# Altium schematic symbol library CorgiSDR.SchLib: 16 symbols
Pins are listed as number, name and electrical type; pins without a type are passive.

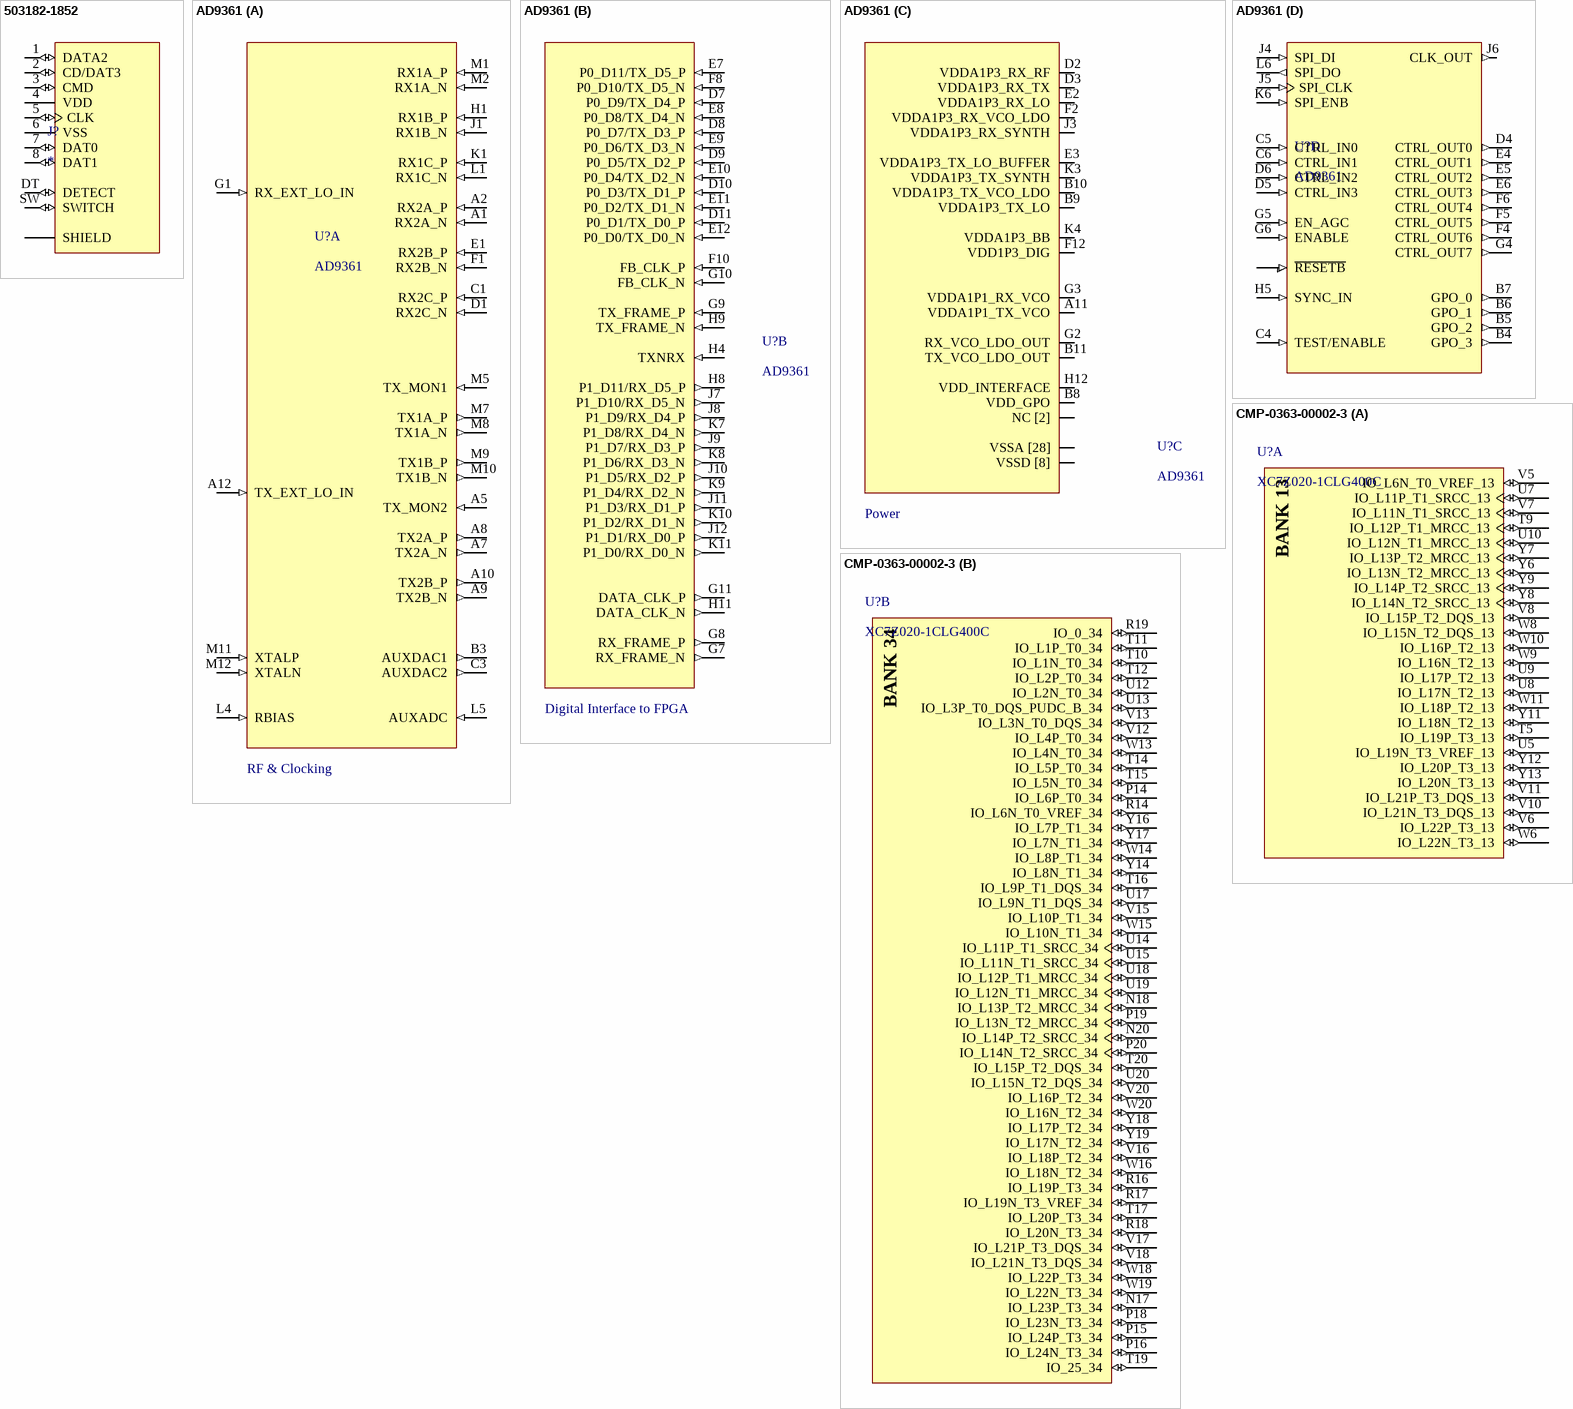
[diagram p0: symbols 503182-1852 to CMP-0363-00002-3]

## 503182-1852
designator J?
Connector - Micro SD Card M 8 POS 1.09mm Solder RA SMD Embossed T/R 0.5A/Contact; MF: {'manufacturer': u'Molex'}; MP: 503182-1852; Availability: Unavailable; Price: None; Value: *; Package: None
footprint MOLEX_503182-1852
pins: 1 DATA2 (io), 2 CD/DAT3 (io), 3 CMD (io), 4 VDD (power), 5 CLK (io), 6 VSS (power), 7 DAT0 (io), 8 DAT1 (io), DT DETECT (io), P1 SHIELD, P2 SHIELD, P3 SHIELD, P4 SHIELD, P5 SHIELD, SW SWITCH (io)

## AD9361
designator U?
Analog Front End - RF Agile Transceiver 2Tx x 2Rx
footprint BGA144C80P12X12_1000X1000X170 (BGA, 144-Leads, Body 10.00x10.00mmx1.70mm, Pitch 0.80mm)
part A pins: A1 RX2A_N (in), A2 RX2A_P (in), A5 TX_MON2 (in), A7 TX2A_N (out), A8 TX2A_P (out), A9 TX2B_N (out), A10 TX2B_P (out), A12 TX_EXT_LO_IN (in), B3 AUXDAC1 (out), C1 RX2C_P (in), C3 AUXDAC2 (out), D1 RX2C_N (in), E1 RX2B_P (in), F1 RX2B_N (in), G1 RX_EXT_LO_IN (in), H1 RX1B_P (in), J1 RX1B_N (in), K1 RX1C_P (in), L1 RX1C_N (in), L4 RBIAS (in), L5 AUXADC (in), M1 RX1A_P (in), M2 RX1A_N (in), M5 TX_MON1 (in), M7 TX1A_P (out), M8 TX1A_N (out), M9 TX1B_P (out), M10 TX1B_N (out), M11 XTALP (in), M12 XTALN (in)
part B pins: D7 P0_D9/TX_D4_P (in), D8 P0_D7/TX_D3_P (in), D9 P0_D5/TX_D2_P (in), D10 P0_D3/TX_D1_P (in), D11 P0_D1/TX_D0_P (in), E7 P0_D11/TX_D5_P (in), E8 P0_D8/TX_D4_N (in), E9 P0_D6/TX_D3_N (in), E10 P0_D4/TX_D2_N (in), E11 P0_D2/TX_D1_N (in), E12 P0_D0/TX_D0_N (in), F8 P0_D10/TX_D5_N (in), F10 FB_CLK_P (in), G7 RX_FRAME_N (out), G8 RX_FRAME_P (out), G9 TX_FRAME_P (in), G10 FB_CLK_N (in), G11 DATA_CLK_P (out), H4 TXNRX (in), H8 P1_D11/RX_D5_P (out), H9 TX_FRAME_N (in), H11 DATA_CLK_N (out), J7 P1_D10/RX_D5_N (out), J8 P1_D9/RX_D4_P (out), J9 P1_D7/RX_D3_P (out), J10 P1_D5/RX_D2_P (out), J11 P1_D3/RX_D1_P (out), J12 P1_D1/RX_D0_P (out), K7 P1_D8/RX_D4_N (out), K8 P1_D6/RX_D3_N (out), K9 P1_D4/RX_D2_N (out), K10 P1_D2/RX_D1_N (out), K11 P1_D0/RX_D0_N (out)
part C pins: A3 NC [2] (power), A4 VSSA [28] (power), A6 (power), A11 VDDA1P1_TX_VCO (power), B1 M15 (power), B2 M16 (power), B8 VDD_GPO (power), B9 VDDA1P3_TX_LO (power), B10 VDDA1P3_TX_VCO_LDO (power), B11 TX_VCO_LDO_OUT (power), B12 M17 (power), C2 M18 (power), C7 M19 (power), C8 M20 (power), C9 M22 (power), C10 M21 (power), C11 M23 (power), C12 M24 (power), D2 VDDA1P3_RX_RF (power), D3 VDDA1P3_RX_TX (power), D12 VSSD [8] (power), E2 VDDA1P3_RX_LO (power), E3 VDDA1P3_TX_LO_BUFFER (power), F2 VDDA1P3_RX_VCO_LDO (power), F3 M26 (power), F7 M14 (power), F9 M15 (power), F11 M16 (power), F12 VDD1P3_DIG (power), G2 RX_VCO_LDO_OUT (power), G3 VDDA1P1_RX_VCO (power), G12 M17 (power), H2 M25 (power), H3 M13 (power), H6 M14 (power), H7 M18 (power), H10 M19 (power), H12 VDD_INTERFACE (power), J2 M15 (power), J3 VDDA1P3_RX_SYNTH (power), K2 M16 (power), K3 VDDA1P3_TX_SYNTH (power), K4 VDDA1P3_BB (power), K12 M20 (power), L2 M17 (power), L3 M18 (power), L7 M19 (power), L8 M20 (power), L9 M21 (power), L10 M22 (power), L11 M23 (power), L12 M24 (power), M3 M14 (power), M4 M25 (power), M6 M26 (power)
part D pins: B4 GPO_3 (out), B5 GPO_2 (out), B6 GPO_1 (out), B7 GPO_0 (out), C4 TEST/ENABLE (in), C5 CTRL_IN0 (in), C6 CTRL_IN1 (in), D4 CTRL_OUT0 (out), D5 CTRL_IN3 (in), D6 CTRL_IN2 (in), E4 CTRL_OUT1 (out), E5 CTRL_OUT2 (out), E6 CTRL_OUT3 (out), F4 CTRL_OUT6 (out), F5 CTRL_OUT5 (out), F6 CTRL_OUT4 (out), G4 CTRL_OUT7 (out), G5 EN_AGC (in), G6 ENABLE (in), H5 SYNC_IN (in), J4 SPI_DI (in), J5 SPI_CLK (in), J6 CLK_OUT (out), K6 SPI_ENB (in), L6 SPI_DO (out), ? ~{RESETB} (in)
part A text: RF & Clocking
part B text: Digital Interface to FPGA
part C text: Power

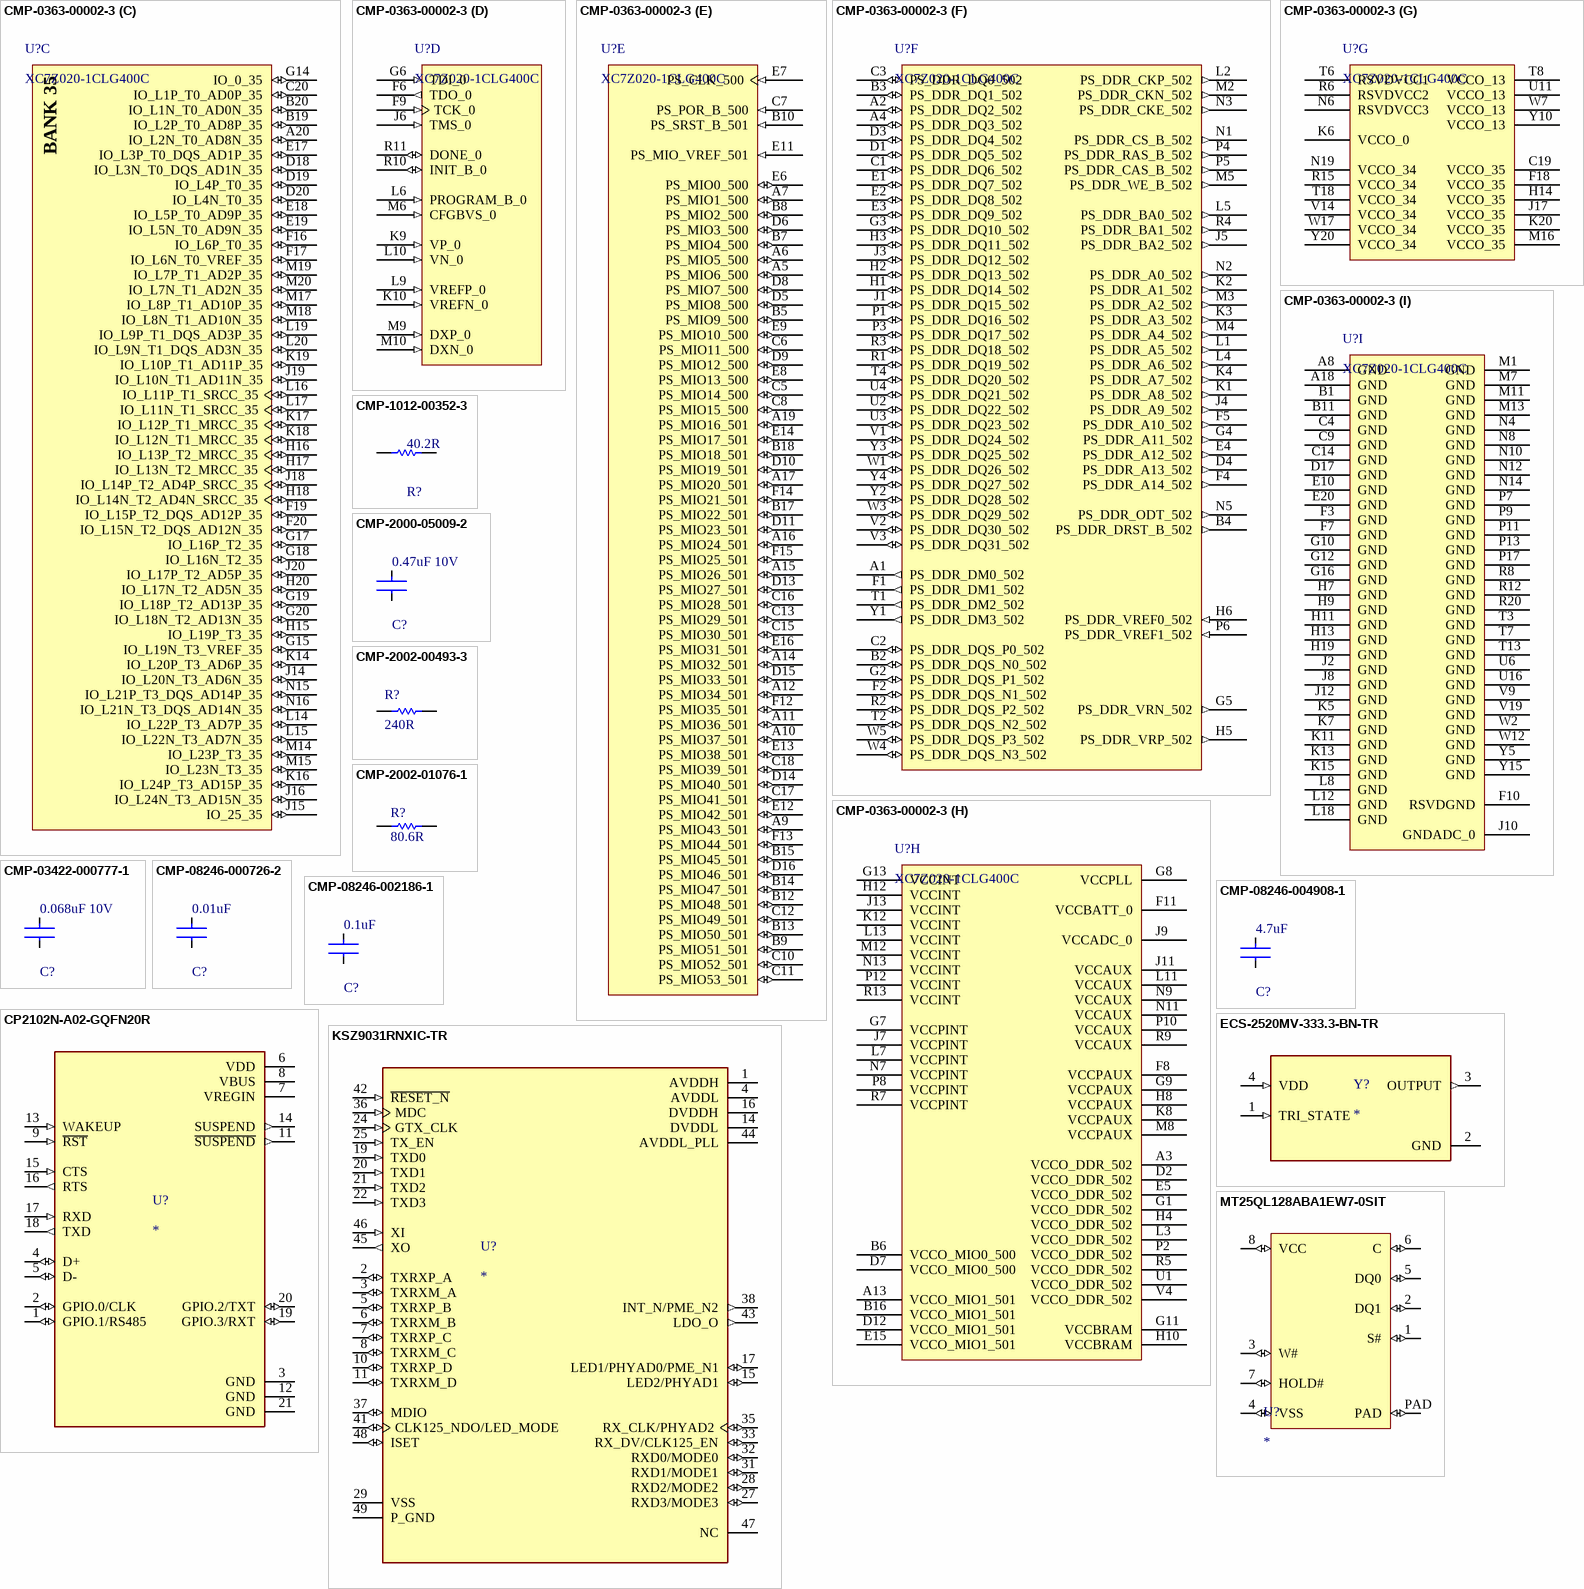
[diagram p1: symbols CMP-0363-00002-3 to MT25QL128ABA1EW7-0SIT]

## CMP-0363-00002-3
designator U?, comment XC7Z020-1CLG400C
SoC - 667 MHz Zynq™-7000 AP SoC, 130 PS I/O, 125 FPGA I/O, 400-Ball BGA, Speed Grade 1, Commercial Grade, Pb-Free; Flip Flops: 106400; Speed Grade: -1; LUTs: 53200; Extensible Block RAM (# 36Kb Blocks): 560 KB (140); PackageVersion: Rev 1.1, 09/2012; ComponentLink1Description: Datasheet; ComponentLink2Description: Package Specification; ComponentLink6Description: PCB and Layout Guide; PackageDescription: Wire-Bond Chip-Scale BGA, Body 17 x 17 mm, 0.8 mm Pitch; RoHS: Pb-Free; DatasheetVersion: v1.2; Mounting Technology: Surface Mount; ComponentLink5Description: Packaging and Pinout; ComponentLink5URL: http://www.xilinx.com/support/documentation/user_guides/ug865-Zynq-7000-Pkg-Pinout.pdf; ComponentLink6URL: http://www.xilinx.com/support/documentation/user_guides/ug483_7Series_PCB.pdf; Generic Part Number: XC7Z020; ComponentLink3Description: DC and AC Switching Characteristics; ComponentLink2URL: http://www.xilinx.com/support/documentation/user_guides/ug865-Zynq-7000-Pkg-Pinout.pdf; ComponentLink4Description: Package File; ComponentLink1URL: http://www.xilinx.com/support/documentation/data_sheets/ds190-Zynq-7000-Overview.pdf; PackageReference: CLG400; ComponentLink3URL: http://www.xilinx.com/support/documentation/data_sheets/ds187-XC7Z010-XC7Z020-Data-Sheet.pdf; PartNumber: XC7Z020-1CLG400C; ComponentLink4URL: http://www.xilinx.com/support/packagefiles/z7packages/xc7z020clg400pkg.txt; Code_JEDEC: MO-275-MMAA-1
footprint CLG400 (BGA, 400-Balls, Body 17x17mm, Pitch 0.8mm)
part A pins: T5 IO_L19P_T3_13 (io), T9 IO_L12P_T1_MRCC_13 (io), U5 IO_L19N_T3_VREF_13 (io), U7 IO_L11P_T1_SRCC_13 (io), U8 IO_L17N_T2_13 (io), U9 IO_L17P_T2_13 (io), U10 IO_L12N_T1_MRCC_13 (io), V5 IO_L6N_T0_VREF_13 (io), V6 IO_L22P_T3_13 (io), V7 IO_L11N_T1_SRCC_13 (io), V8 IO_L15P_T2_DQS_13 (io), V10 IO_L21N_T3_DQS_13 (io), V11 IO_L21P_T3_DQS_13 (io), W6 IO_L22N_T3_13 (io), W8 IO_L15N_T2_DQS_13 (io), W9 IO_L16N_T2_13 (io), W10 IO_L16P_T2_13 (io), W11 IO_L18P_T2_13 (io), Y6 IO_L13N_T2_MRCC_13 (io), Y7 IO_L13P_T2_MRCC_13 (io), Y8 IO_L14N_T2_SRCC_13 (io), Y9 IO_L14P_T2_SRCC_13 (io), Y11 IO_L18N_T2_13 (io), Y12 IO_L20P_T3_13 (io), Y13 IO_L20N_T3_13 (io)
part B pins: N17 IO_L23P_T3_34 (io), N18 IO_L13P_T2_MRCC_34 (io), N20 IO_L14P_T2_SRCC_34 (io), P14 IO_L6P_T0_34 (io), P15 IO_L24P_T3_34 (io), P16 IO_L24N_T3_34 (io), P18 IO_L23N_T3_34 (io), P19 IO_L13N_T2_MRCC_34 (io), P20 IO_L14N_T2_SRCC_34 (io), R14 IO_L6N_T0_VREF_34 (io), R16 IO_L19P_T3_34 (io), R17 IO_L19N_T3_VREF_34 (io), R18 IO_L20N_T3_34 (io), R19 IO_0_34 (io), T10 IO_L1N_T0_34 (io), T11 IO_L1P_T0_34 (io), T12 IO_L2P_T0_34 (io), T14 IO_L5P_T0_34 (io), T15 IO_L5N_T0_34 (io), T16 IO_L9P_T1_DQS_34 (io), T17 IO_L20P_T3_34 (io), T19 IO_25_34 (io), T20 IO_L15P_T2_DQS_34 (io), U12 IO_L2N_T0_34 (io), U13 IO_L3P_T0_DQS_PUDC_B_34 (io), U14 IO_L11P_T1_SRCC_34 (io), U15 IO_L11N_T1_SRCC_34 (io), U17 IO_L9N_T1_DQS_34 (io), U18 IO_L12P_T1_MRCC_34 (io), U19 IO_L12N_T1_MRCC_34 (io), U20 IO_L15N_T2_DQS_34 (io), V12 IO_L4P_T0_34 (io), V13 IO_L3N_T0_DQS_34 (io), V15 IO_L10P_T1_34 (io), V16 IO_L18P_T2_34 (io), V17 IO_L21P_T3_DQS_34 (io), V18 IO_L21N_T3_DQS_34 (io), V20 IO_L16P_T2_34 (io), W13 IO_L4N_T0_34 (io), W14 IO_L8P_T1_34 (io), W15 IO_L10N_T1_34 (io), W16 IO_L18N_T2_34 (io), W18 IO_L22P_T3_34 (io), W19 IO_L22N_T3_34 (io), W20 IO_L16N_T2_34 (io), Y14 IO_L8N_T1_34 (io), Y16 IO_L7P_T1_34 (io), Y17 IO_L7N_T1_34 (io), Y18 IO_L17P_T2_34 (io), Y19 IO_L17N_T2_34 (io)
part C pins: A20 IO_L2N_T0_AD8N_35 (io), B19 IO_L2P_T0_AD8P_35 (io), B20 IO_L1N_T0_AD0N_35 (io), C20 IO_L1P_T0_AD0P_35 (io), D18 IO_L3N_T0_DQS_AD1N_35 (io), D19 IO_L4P_T0_35 (io), D20 IO_L4N_T0_35 (io), E17 IO_L3P_T0_DQS_AD1P_35 (io), E18 IO_L5P_T0_AD9P_35 (io), E19 IO_L5N_T0_AD9N_35 (io), F16 IO_L6P_T0_35 (io), F17 IO_L6N_T0_VREF_35 (io), F19 IO_L15P_T2_DQS_AD12P_35 (io), F20 IO_L15N_T2_DQS_AD12N_35 (io), G14 IO_0_35 (io), G15 IO_L19N_T3_VREF_35 (io), G17 IO_L16P_T2_35 (io), G18 IO_L16N_T2_35 (io), G19 IO_L18P_T2_AD13P_35 (io), G20 IO_L18N_T2_AD13N_35 (io), H15 IO_L19P_T3_35 (io), H16 IO_L13P_T2_MRCC_35 (io), H17 IO_L13N_T2_MRCC_35 (io), H18 IO_L14N_T2_AD4N_SRCC_35 (io), H20 IO_L17N_T2_AD5N_35 (io), J14 IO_L20N_T3_AD6N_35 (io), J15 IO_25_35 (io), J16 IO_L24N_T3_AD15N_35 (io), J18 IO_L14P_T2_AD4P_SRCC_35 (io), J19 IO_L10N_T1_AD11N_35 (io), J20 IO_L17P_T2_AD5P_35 (io), K14 IO_L20P_T3_AD6P_35 (io), K16 IO_L24P_T3_AD15P_35 (io), K17 IO_L12P_T1_MRCC_35 (io), K18 IO_L12N_T1_MRCC_35 (io), K19 IO_L10P_T1_AD11P_35 (io), L14 IO_L22P_T3_AD7P_35 (io), L15 IO_L22N_T3_AD7N_35 (io), L16 IO_L11P_T1_SRCC_35 (io), L17 IO_L11N_T1_SRCC_35 (io), L19 IO_L9P_T1_DQS_AD3P_35 (io), L20 IO_L9N_T1_DQS_AD3N_35 (io), M14 IO_L23P_T3_35 (io), M15 IO_L23N_T3_35 (io), M17 IO_L8P_T1_AD10P_35 (io), M18 IO_L8N_T1_AD10N_35 (io), M19 IO_L7P_T1_AD2P_35 (io), M20 IO_L7N_T1_AD2N_35 (io), N15 IO_L21P_T3_DQS_AD14P_35 (io), N16 IO_L21N_T3_DQS_AD14N_35 (io)
part D pins: F6 TDO_0 (out), F9 TCK_0 (in), G6 TDI_0 (in), J6 TMS_0 (in), K9 VP_0 (in), K10 VREFN_0 (in), L6 PROGRAM_B_0 (in), L9 VREFP_0 (in), L10 VN_0 (in), M6 CFGBVS_0 (in), M9 DXP_0 (in), M10 DXN_0 (in), R10 INIT_B_0 (io), R11 DONE_0 (io)
part E pins: A5 PS_MIO6_500 (io), A6 PS_MIO5_500 (io), A7 PS_MIO1_500 (io), A9 PS_MIO43_501 (io), A10 PS_MIO37_501 (io), A11 PS_MIO36_501 (io), A12 PS_MIO34_501 (io), A14 PS_MIO32_501 (io), A15 PS_MIO26_501 (io), A16 PS_MIO24_501 (io), A17 PS_MIO20_501 (io), A19 PS_MIO16_501 (io), B5 PS_MIO9_500 (io), B7 PS_MIO4_500 (io), B8 PS_MIO2_500 (io), B9 PS_MIO51_501 (io), B10 PS_SRST_B_501 (in), B12 PS_MIO48_501 (io), B13 PS_MIO50_501 (io), B14 PS_MIO47_501 (io), B15 PS_MIO45_501 (io), B17 PS_MIO22_501 (io), B18 PS_MIO18_501 (io), C5 PS_MIO14_500 (io), C6 PS_MIO11_500 (io), C7 PS_POR_B_500 (in), C8 PS_MIO15_500 (io), C10 PS_MIO52_501 (io), C11 PS_MIO53_501 (io), C12 PS_MIO49_501 (io), C13 PS_MIO29_501 (io), C15 PS_MIO30_501 (io), C16 PS_MIO28_501 (io), C17 PS_MIO41_501 (io), C18 PS_MIO39_501 (io), D5 PS_MIO8_500 (io), D6 PS_MIO3_500 (io), D8 PS_MIO7_500 (io), D9 PS_MIO12_500 (io), D10 PS_MIO19_501 (io), D11 PS_MIO23_501 (io), D13 PS_MIO27_501 (io), D14 PS_MIO40_501 (io), D15 PS_MIO33_501 (io), D16 PS_MIO46_501 (io), E6 PS_MIO0_500 (io), E7 PS_CLK_500 (in), E8 PS_MIO13_500 (io), E9 PS_MIO10_500 (io), E11 PS_MIO_VREF_501 (in), E12 PS_MIO42_501 (io), E13 PS_MIO38_501 (io), E14 PS_MIO17_501 (io), E16 PS_MIO31_501 (io), F12 PS_MIO35_501 (io), F13 PS_MIO44_501 (io), F14 PS_MIO21_501 (io), F15 PS_MIO25_501 (io)
part F pins: A1 PS_DDR_DM0_502 (out), A2 PS_DDR_DQ2_502 (io), A4 PS_DDR_DQ3_502 (io), B2 PS_DDR_DQS_N0_502 (io), B3 PS_DDR_DQ1_502 (io), B4 PS_DDR_DRST_B_502 (out), C1 PS_DDR_DQ6_502 (io), C2 PS_DDR_DQS_P0_502 (io), C3 PS_DDR_DQ0_502 (io), D1 PS_DDR_DQ5_502 (io), D3 PS_DDR_DQ4_502 (io), D4 PS_DDR_A13_502 (out), E1 PS_DDR_DQ7_502 (io), E2 PS_DDR_DQ8_502 (io), E3 PS_DDR_DQ9_502 (io), E4 PS_DDR_A12_502 (out), F1 PS_DDR_DM1_502 (out), F2 PS_DDR_DQS_N1_502 (io), F4 PS_DDR_A14_502 (out), F5 PS_DDR_A10_502 (out), G2 PS_DDR_DQS_P1_502 (io), G3 PS_DDR_DQ10_502 (io), G4 PS_DDR_A11_502 (out), G5 PS_DDR_VRN_502 (out), H1 PS_DDR_DQ14_502 (io), H2 PS_DDR_DQ13_502 (io), H3 PS_DDR_DQ11_502 (io), H5 PS_DDR_VRP_502 (out), H6 PS_DDR_VREF0_502 (in), J1 PS_DDR_DQ15_502 (io), J3 PS_DDR_DQ12_502 (io), J4 PS_DDR_A9_502 (out), J5 PS_DDR_BA2_502 (out), K1 PS_DDR_A8_502 (out), K2 PS_DDR_A1_502 (out), K3 PS_DDR_A3_502 (out), K4 PS_DDR_A7_502 (out), L1 PS_DDR_A5_502 (out), L2 PS_DDR_CKP_502 (out), L4 PS_DDR_A6_502 (out), L5 PS_DDR_BA0_502 (out), M2 PS_DDR_CKN_502 (out), M3 PS_DDR_A2_502 (out), M4 PS_DDR_A4_502 (out), M5 PS_DDR_WE_B_502 (out), N1 PS_DDR_CS_B_502 (out), N2 PS_DDR_A0_502 (out), N3 PS_DDR_CKE_502 (out), N5 PS_DDR_ODT_502 (out), P1 PS_DDR_DQ16_502 (io), P3 PS_DDR_DQ17_502 (io), P4 PS_DDR_RAS_B_502 (out), P5 PS_DDR_CAS_B_502 (out), P6 PS_DDR_VREF1_502 (in), R1 PS_DDR_DQ19_502 (io), R2 PS_DDR_DQS_P2_502 (io), R3 PS_DDR_DQ18_502 (io), R4 PS_DDR_BA1_502 (out), T1 PS_DDR_DM2_502 (out), T2 PS_DDR_DQS_N2_502 (io), T4 PS_DDR_DQ20_502 (io), U2 PS_DDR_DQ22_502 (io), U3 PS_DDR_DQ23_502 (io), U4 PS_DDR_DQ21_502 (io), V1 PS_DDR_DQ24_502 (io), V2 PS_DDR_DQ30_502 (io), V3 PS_DDR_DQ31_502 (io), W1 PS_DDR_DQ26_502 (io), W3 PS_DDR_DQ29_502 (io), W4 PS_DDR_DQS_N3_502 (io), W5 PS_DDR_DQS_P3_502 (io), Y1 PS_DDR_DM3_502 (out), Y2 PS_DDR_DQ28_502 (io), Y3 PS_DDR_DQ25_502 (io), Y4 PS_DDR_DQ27_502 (io)
part G pins: C19 VCCO_35 (power), F18 VCCO_35 (power), H14 VCCO_35 (power), J17 VCCO_35 (power), K6 VCCO_0 (power), K20 VCCO_35 (power), M16 VCCO_35 (power), N6 RSVDVCC3 (power), N19 VCCO_34 (power), R6 RSVDVCC2 (power), R15 VCCO_34 (power), T6 RSVDVCC1 (power), T8 VCCO_13 (power), T18 VCCO_34 (power), U11 VCCO_13 (power), V14 VCCO_34 (power), W7 VCCO_13 (power), W17 VCCO_34 (power), Y10 VCCO_13 (power), Y20 VCCO_34 (power)
part H pins: A3 VCCO_DDR_502 (power), A13 VCCO_MIO1_501 (power), B6 VCCO_MIO0_500 (power), B16 VCCO_MIO1_501 (power), D2 VCCO_DDR_502 (power), D7 VCCO_MIO0_500 (power), D12 VCCO_MIO1_501 (power), E5 VCCO_DDR_502 (power), E15 VCCO_MIO1_501 (power), F8 VCCPAUX (power), F11 VCCBATT_0 (power), G1 VCCO_DDR_502 (power), G7 VCCPINT (power), G8 VCCPLL (power), G9 VCCPAUX (power), G11 VCCBRAM (power), G13 VCCINT (power), H4 VCCO_DDR_502 (power), H8 VCCPAUX (power), H10 VCCBRAM (power), H12 VCCINT (power), J7 VCCPINT (power), J9 VCCADC_0 (power), J11 VCCAUX (power), J13 VCCINT (power), K8 VCCPAUX (power), K12 VCCINT (power), L3 VCCO_DDR_502 (power), L7 VCCPINT (power), L11 VCCAUX (power), L13 VCCINT (power), M8 VCCPAUX (power), M12 VCCINT (power), N7 VCCPINT (power), N9 VCCAUX (power), N11 VCCAUX (power), N13 VCCINT (power), P2 VCCO_DDR_502 (power), P8 VCCPINT (power), P10 VCCAUX (power), P12 VCCINT (power), R5 VCCO_DDR_502 (power), R7 VCCPINT (power), R9 VCCAUX (power), R13 VCCINT (power), U1 VCCO_DDR_502 (power), V4 VCCO_DDR_502 (power)
part I pins: A8 GND (power), A18 GND (power), B1 GND (power), B11 GND (power), C4 GND (power), C9 GND (power), C14 GND (power), D17 GND (power), E10 GND (power), E20 GND (power), F3 GND (power), F7 GND (power), F10 RSVDGND (power), G10 GND (power), G12 GND (power), G16 GND (power), H7 GND (power), H9 GND (power), H11 GND (power), H13 GND (power), H19 GND (power), J2 GND (power), J8 GND (power), J10 GNDADC_0 (power), J12 GND (power), K5 GND (power), K7 GND (power), K11 GND (power), K13 GND (power), K15 GND (power), L8 GND (power), L12 GND (power), L18 GND (power), M1 GND (power), M7 GND (power), M11 GND (power), M13 GND (power), N4 GND (power), N8 GND (power), N10 GND (power), N12 GND (power), N14 GND (power), P7 GND (power), P9 GND (power), P11 GND (power), P13 GND (power), P17 GND (power), R8 GND (power), R12 GND (power), R20 GND (power), T3 GND (power), T7 GND (power), T13 GND (power), U6 GND (power), U16 GND (power), V9 GND (power), V19 GND (power), W2 GND (power), W12 GND (power), Y5 GND (power), Y15 GND (power)
part A text: BANK 13
part B text: BANK 34
part C text: BANK 35

## CMP-1012-00352-3
designator R?, comment 40.2R
Resistor - 40.2Ω, 1%, 0.1W, 100ppm/°C, 0603; Max Power Dissipation: 100mW; Voltage Rating (DC): 75V; Packaging: Tape and Reel; Mount: Surface Mount; Composition: Thick Film; Case Code (Metric): 1608; Case/Package: 0603; Radiation Hardening: No; Min Operating Temperature: -55°C; Resistance: 40.2R; Power Rating: 100mW; Width: 0.033inch; Temperature Coefficient: 100ppm/°C; Tolerance: 1%; Termination: SMD/SMT; Case Code (Imperial): 0603; Features: Automotive AEC-Q200; Lead Free: Lead Free; Number of Terminations: 2; Max Operating Temperature: 155°C; Height: 0.45mm; Depth: 0.85mm; Military Standard: Not; Number of Pins: 2; Package Quantity: 10; Contact Plating: Tin; Weight: 7.1E-05oz; Voltage Rating: 75V; Length: 1.55mm
footprint FP-CRCW0603-e3-IPC_B
pins: 1, 2

## CMP-2000-05009-2
designator C?, comment 0.47uF 10V
Ceramic Capacitor - 0.47UF 10V X5R 0402; Manufacturer: Murata Electronics North America; Manufacturer Part Number: GRM155R61A474KE15D; Temperature Coefficient: 15%; Tolerance: 10%; Device Class L3: Ceramic Capacitors; ComponentLink2Description: Datasheet; ComponentLink2URL: https://search.murata.co.jp/Ceramy/image/img/A01X/G101/ENG/GRM155R61A474KE15-01A.pdf; Package: GRM15-0.1; Voltage Rating: 10V; Capacitance: 0.47uF; Category: Cap; Temperature Range High: +85°C; Temperature Range Low: -55°C; Height: 0.55mm; Device Class L2: Capacitors; Lead Free: Yes; Mouser Description: Multilayer Ceramic Capacitors MLCC - SMD/SMT 0402 0.47uF 10volts X5R 10%; Ipc Land Pattern Name: CAPC10050X50; Temperature Characteristic: X5R; Digikey Description: CAP CER 0.47UF 10V X5R 0402; Value: 0.47uF; Octopart: https://octopart.com/grm155r61a474ke15d-murata-196883; Automotive: No; Material: Ceramic; Device Class L1: Passive Components; Temperature: -55°C to +85°C; RoHS: TRUE
footprint FP-C1005-050-0_05-IPC_B
pins: 1, 2

## CMP-2002-00493-3
designator R?, comment 240R
Resistor - 240 Ohm, +/- 5%, 100 mW, 0402; PartNumber: ERJ-2GEJ241x; Manufacturer: Basic Passives; Resistance: 240 Ohm; Voltage Rating: 50 V; Case\/Package: 0402; Power Rating: 100 mW; PackageReference: 0402; ComponentLink1URL: http://www.panasonic.com/; ComponentLink2Description: Datasheet; PackageDescription: 2-Pin Surface Mount Device, Body 1 x 0.5 mm; Tolerance: 5%; Radiation Hardening: No; Packaging: Tape and Reel; Case Code (Metric): 1005; Case Code (Imperial): 0402; Mount: Surface Mount; REACH SVHC: Yes; Length: 1 mm; Mounting Technology: Surface Mount; Max Operating Temperature: 155 degC; Height: 0.35 mm; Width: 0.5 mm; Package Quantity: 10000; RoHSCompliant: true; DatasheetVersion: 03/2015; Pins: 2; ComponentLink1Description: Manufacturer URL; Min Operating Temperature: -55 degC; ComponentLink2URL: http://industrial.panasonic.com/cdbs/www-data/pdf/RDA0000/AOA0000C84.pdf
footprint RESC1005X40X25NL05T05 (Chip Resistor, 2-Leads, Body 1.00x0.50mm, IPC Medium Density)
pins: 1, 2

## CMP-2002-01076-1
designator R?, comment 80.6R
Resistor - 80.6R 1% 0.1W 0402; Manufacturer: Panasonic; Part Number: ERJ-2RKF80R6X; Resistance: 80.6; Category: Resistor; Tolerance: 1%; Power Rating: 0.1W; Case Code (Imperial): 0402
footprint RESC1005X40X25NL05T05 (Chip Resistor, 2-Leads, Body 1.05x0.55mm, IPC Medium Density)
pins: 1, 2
1 alternate drawing of the same symbol

## CMP-03422-000777-1
designator C?, comment 0.068uF 10V
Ceramic Capacitor - 0.068UF 10V X7R 0402; Manufacturer Part Number: CC0402KRX7R6BB683; Manufacturer: YAGEO; Value: 68 nF; Tolerance: 0.1; Automotive Grade: NA; Temperature Coefficient: 30ppm/°C; Automotive: No; Height: 0.55mm; RoHS: TRUE; Temperature: -55°C to +125°C; Device Class L1: Passive Components; ComponentLink2URL: http://www.yageo.com/documents/recent/UPY-GP_NP0_16V-to-50V_16.pdf; Footprint Url: http://www.yageo.com/exep/pages/download/literatures/UPY-C_GEN_24.pdf; Material: Ceramic; Temperature Range Low: -55°C; Digikey Description: CAP CER 0.068UF 10V X7R 0402; ComponentLink2Description: Datasheet; Temperature Characteristic: X7R; Category: Capacitor; Device Class L2: Capacitors; Lead Free: Yes; Temperature Range High: +125°C; Octopart: https://octopart.com/cc0402krx7r6bb683-yageo-9289272; Capacitance: 68 nF; Package: CC0402; Voltage Rating: 10 V; Device Class L3: Ceramic Capacitors; Mouser Description: Multilayer Ceramic Capacitors MLCC - SMD/SMT 68nF 10V X7R 10%; Ipc Land Pattern Name: CAPC10050X50
footprint FP-C1005-050-0_05-IPC_B
pins: 1, 2

## CMP-08246-000726-2
designator C?, comment 0.01uF
Ceramic Capacitor - 10nF ±10% 25V X8R SMD 0402; Dissipation Factor: 3%; Length: 1mm; Capacitance: 10nF; Termination: SMD/SMT; Packaging: Tape and Reel; Weight: 2.3E-05oz; Resistor Type: Ceramic; Case/Package: 0402; Number of Pins: 2; Voltage Rating (DC): 25V; Voltage: 25V; Width: 0.02inch; Tolerance: 10%; Depth: 0.5mm; Case Code (Metric): 1005; Dielectric: X8R; RoHS Compliant: Yes; Max Operating Temperature: 150°C; Features: High Temperature; Voltage Rating: 25V; REACH SVHC: No SVHC; Series: C; Package Quantity: 10000; Mount: Surface Mount; Dielectric Material: Ceramic; Case Code (Imperial): 0402; Lead Free: Lead Free; Thickness: 0.022inch; Height: 0.5mm; Min Operating Temperature: -55°C; Category: Capacitor
footprint FP-C1005-050-0_05-IPC_B
pins: 1, 2

## CMP-08246-002186-1
designator C?, comment 0.1uF
Cap Ceramic 100nF 25V X7R 10% Pad SMD 0603 +125°C Automotive T/R; Composition: Ceramic; Dielectric: X7R; Ratings: AEC-Q200; Length: 1.6mm; REACH SVHC: No SVHC; Width: 0.031inch; Packaging: Tape and Reel; Case/Package: 0603; Height: 0.8mm; Termination: SMD/SMT; Max Operating Temperature: 125°C; Thickness: 0.035inch; Case Code (Metric): 1608; Lead Free: Lead Free; Mount: Surface Mount; Voltage Rating (DC): 25V; Capacitance: 100nF; Voltage Rating: 25V; Tolerance: 10%; Weight: 7.1E-05oz; Min Operating Temperature: -55°C; Package Quantity: 1; Depth: 0.8mm; Case Code (Imperial): 0603; Category: Capacitor
footprint FP-CGA3E-0_3-0_1-IPC_B
pins: 1, 2

## CMP-08246-004908-1
designator C?, comment 4.7uF
Ceramic Capacitor  - 4.7μF ±10% 25V X5R SMD 0805; Lead Free: Lead Free; Thickness: 0.057inch; Packaging: Tape and Reel; Min Operating Temperature: -55°C; RoHS Compliant: Yes; Dielectric: X5R; Weight: 0.000194oz; REACH SVHC: No SVHC; Voltage Rating (DC): 25V; Mount: Surface Mount; Capacitance: 4.7uF; Resistor Type: Ceramic; Termination: SMD/SMT; Number of Pins: 2; Case Code (Imperial): 0805; Dielectric Material: Ceramic; Voltage: 25V; Voltage Rating: 25V; Case Code (Metric): 2012; Case/Package: 0805; Max Operating Temperature: 85°C; Height: 1.25mm; Tolerance: 10%; Depth: 1.25mm; Package Quantity: 1; Length: 2mm; Radiation Hardening: No; Width: 1.25mm; Category: Capacitor
footprint FP-C2012-125-0_2-IPC_B
pins: 1, 2

## CP2102N-A02-GQFN20R
designator U?
Transceiver - IC USB TO UART BRIDGE QFN20; MF: {'manufacturer': u'Silicon Labs'}; MP: CP2102N-A02-GQFN20R; Availability: Unavailable; Price: None; Value: *; Package: None; Category: Transceiver
footprint SILABS_CP2102N-A02-GQFN20R
pins: 1 GPIO.1/RS485 (io), 2 GPIO.0/CLK (io), 3 GND (power), 4 D+ (io), 5 D- (io), 6 VDD (power), 7 VREGIN (power), 8 VBUS (power), 9 ~{RST} (in), 11 ~{SUSPEND} (out), 12 GND (power), 13 WAKEUP (in), 14 SUSPEND (out), 15 CTS (in), 16 RTS (out), 17 RXD (in), 18 TXD (out), 19 GPIO.3/RXT (io), 20 GPIO.2/TXT (io), 21 GND (power)

## ECS-2520MV-333.3-BN-TR
designator Y?
Oscillator - 33.33333MHz; MF: {'manufacturer': u'ECS Inc.'}; MP: ECS-2520MV-333.3-BN-TR; Availability: Unavailable; Price: None; Value: *; Package: None; Category: Oscillator
footprint OSC_ECS-2520S25-250-FN-TR
pins: 1 TRI_STATE (in), 2 GND (power), 3 OUTPUT (out), 4 VDD (in)

## KSZ9031RNXIC-TR
designator U?
Transceiver - 4/4 Transceiver Full Ethernet 48-QFN (7x7); MF: {'manufacturer': u'Microchip'}; MP: KSZ9031RNXIC-TR; Price: None; Value: *; Package: None; Availability: Unavailable; Category: Transceiver
footprint QFN50P700X700X90-49N
pins: 1 AVDDH (power), 2 TXRXP_A (io), 3 TXRXM_A (io), 4 AVDDL (power), 5 TXRXP_B (io), 6 TXRXM_B (io), 7 TXRXP_C (io), 8 TXRXM_C (io), 9 AVDDL (power), 10 TXRXP_D (io), 11 TXRXM_D (io), 12 AVDDH (power), 13 NC_1, 14 DVDDL (power), 15 LED2/PHYAD1 (io), 16 DVDDH (power), 17 LED1/PHYAD0/PME_N1 (io), 18 DVDDL (power), 19 TXD0 (in), 20 TXD1 (in), 21 TXD2 (in), 22 TXD3 (in), 23 DVDDL (power), 24 GTX_CLK (in), 25 TX_EN (in), 26 DVDDL (power), 27 RXD3/MODE3 (io), 28 RXD2/MODE2 (io), 29 VSS (power), 30 DVDDL (power), 31 RXD1/MODE1 (io), 32 RXD0/MODE0 (io), 33 RX_DV/CLK125_EN (io), 34 DVDDH (power), 35 RX_CLK/PHYAD2 (io), 36 MDC (in), 37 MDIO (io), 38 INT_N/PME_N2 (out), 39 DVDDL (power), 40 DVDDH (power), 41 CLK125_NDO/LED_MODE (io), 42 ~{RESET_N} (in), 43 LDO_O (out), 44 AVDDL_PLL (power), 45 XO (out), 46 XI (in), 47 NC, 48 ISET (io), 49 P_GND (power), 50 P_GND (power), 51 P_GND (power), 52 P_GND (power), 53 P_GND (power)

## MT25QL128ABA1EW7-0SIT
designator U?
Memory - SPI NOR Flash; MF: {'manufacturer': u'Micron Technology Inc.'}; MP: MT25QL128ABA1EW7-0SIT; Price: None; Value: *; Package: None; Availability: Unavailable; Category: Memory
footprint W-PDFN-8
pins: 1 S# (io), 2 DQ1 (io), 3 W# (io), 4 VSS (io), 5 DQ0 (io), 6 C (io), 7 HOLD# (io), 8 VCC (io), PAD (io)

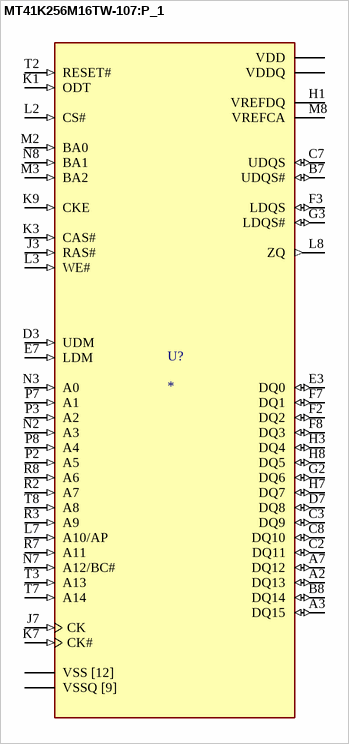
[diagram p2: symbol MT41K256M16TW-107:P_1]

## MT41K256M16TW-107:P_1
designator U?
Memory - DDR3L Memory IC 4Gb (256M x 16) Parallel 933MHz 20ns 96-FBGA (8x14); MF: {'manufacturer': u'Micron Technology Inc.'}; MP: MT41K256M16TW-107:P; Price: None; Value: *; Package: None; Availability: Unavailable; Category: Memory
footprint BGA96C80P9X16_1400X800X120
pins: A1 VDDQ (power), A2 DQ13 (io), A3 DQ15 (io), A7 DQ12 (io), A8 VDDQ (power), A9 VSS [12] (power), B1 VSSQ (power), B2 VDD (power), B3 VSS (power), B7 UDQS# (io), B8 DQ14 (io), B9 VSSQ (power), C1 VDDQ (power), C2 DQ11 (io), C3 DQ9 (io), C7 UDQS (io), C8 DQ10 (io), C9 VDDQ (power), D1 VSSQ (power), D2 VDDQ (power), D3 UDM (in), D7 DQ8 (io), D8 VSSQ (power), D9 VDD (power), E1 VSS (power), E2 VSSQ (power), E3 DQ0 (io), E7 LDM (in), E8 VSSQ (power), E9 VDDQ (power), F1 VDDQ (power), F2 DQ2 (io), F3 LDQS (io), F7 DQ1 (io), F8 DQ3 (io), F9 VSSQ (power), G1 VSSQ (power), G2 DQ6 (io), G3 LDQS# (io), G7 VDD (power), G8 VSS (power), G9 VSSQ [9] (power), H1 VREFDQ (power), H2 VDDQ (power), H3 DQ4 (io), H7 DQ7 (io), H8 DQ5 (io), H9 VDDQ (power), J2 VSS (power), J3 RAS# (in), J7 CK (in), J8 VSS (power), K1 ODT (in), K2 VDD (power), K3 CAS# (in), K7 CK# (in), K8 VDD (power), K9 CKE (in), L2 CS# (in), L3 WE# (in), L7 A10/AP (in), L8 ZQ (out), M1 VSS (power), M2 BA0 (in), M3 BA2 (in), M8 VREFCA (power), M9 VSS (power), N1 VDD (power), N2 A3 (in), N3 A0 (in), N7 A12/BC# (in), N8 BA1 (in), N9 VDD (power), P1 VSS (power), P2 A5 (in), P3 A2 (in), P7 A1 (in), P8 A4 (in), P9 VSS (power), R1 VDD (power), R2 A7 (in), R3 A9 (in), R7 A11 (in), R8 A6 (in), R9 VDD (power), T1 VSS (power), T2 RESET# (in), T3 A13 (in), T7 A14 (in), T8 A8 (in), T9 VSS (power)